# EAGLE library part CY8C26643-24* (library cypress_micro)
The CY8C25xxx/26xxx family of Programmable System-on-Chip (PSoC) microcontrollers offers a fast core, Flash program memory and SRAM data memory with configurable analog and digital peripheral blocks in a range of convinient pinouts and memory size on one single chip.
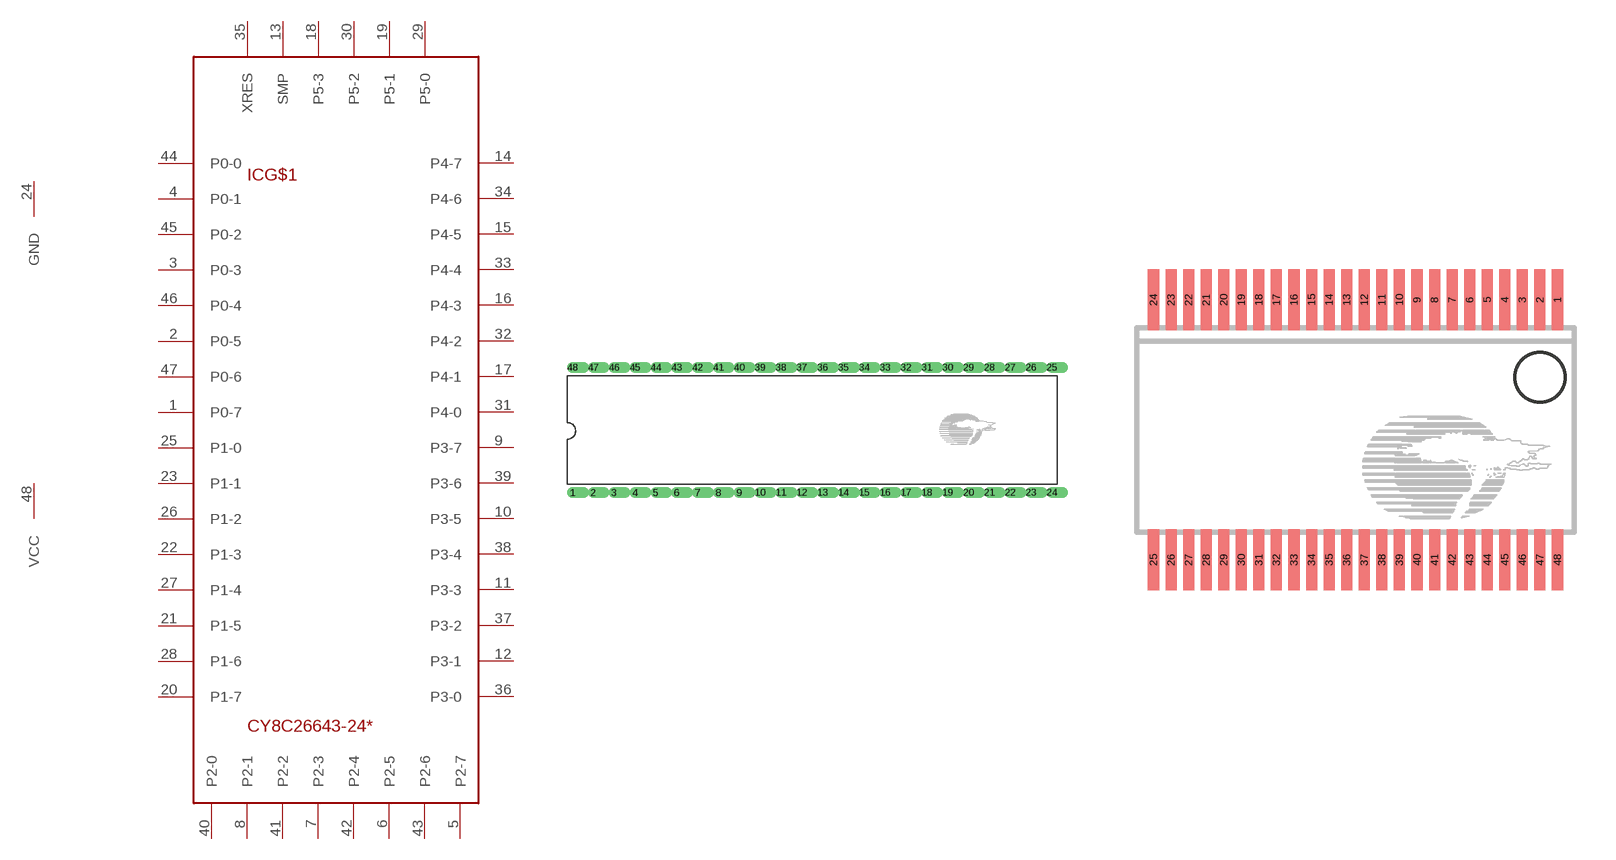
[diagram p2: symbol with the pads of PDIP48; footprints PDIP48, SSOP48]

Designator prefix IC; gates G$1=CY8C26663 G$2=GND G$3=VCC

## CY8C26643-24PI  [PDIP48]
1  G$1:P0-7
2  G$1:P0-5
3  G$1:P0-3
4  G$1:P0-1
5  G$1:P2-7
6  G$1:P2-5
7  G$1:P2-3
8  G$1:P2-1
9  G$1:P3-7
10  G$1:P3-5
11  G$1:P3-3
12  G$1:P3-1
13  G$1:SMP  out
14  G$1:P4-7
15  G$1:P4-5
16  G$1:P4-3
17  G$1:P4-1
18  G$1:P5-3
19  G$1:P5-1
20  G$1:P1-7
21  G$1:P1-5
22  G$1:P1-3
23  G$1:P1-1
24  G$2:GND  pwr
25  G$1:P1-0
26  G$1:P1-2
27  G$1:P1-4
28  G$1:P1-6
29  G$1:P5-0
30  G$1:P5-2
31  G$1:P4-0
32  G$1:P4-2
33  G$1:P4-4
34  G$1:P4-6
35  G$1:XRES  in
36  G$1:P3-0
37  G$1:P3-2
38  G$1:P3-4
39  G$1:P3-6
40  G$1:P2-0
41  G$1:P2-2
42  G$1:P2-4
43  G$1:P2-6
44  G$1:P0-0
45  G$1:P0-2
46  G$1:P0-4
47  G$1:P0-6
48  G$3:VCC  pwr

## CY8C26643-24PVI  [SSOP48]
Pads as for PDIP48

## Footprint PDIP48 (pad centres in mm)
Plastic Dual Inline Package with 48 pins
drill 0.813 offset: 1 -29.21,-7.62; 2 -26.67,-7.62; 3 -24.13,-7.62; 4 -21.59,-7.62; 5 -19.05,-7.62; 6 -16.51,-7.62; 7 -13.97,-7.62; 8 -11.43,-7.62; 9 -8.89,-7.62; 10 -6.35,-7.62; 11 -3.81,-7.62; 12 -1.27,-7.62; 13 1.27,-7.62; 14 3.81,-7.62; 15 6.35,-7.62; 16 8.89,-7.62; 17 11.43,-7.62; 18 13.97,-7.62; 19 16.51,-7.62; 20 19.05,-7.62; 21 21.59,-7.62; 22 24.13,-7.62; 23 26.67,-7.62; 24 29.21,-7.62; 25 29.21,7.62; 26 26.67,7.62; 27 24.13,7.62; 28 21.59,7.62; 29 19.05,7.62; 30 16.51,7.62; 31 13.97,7.62; 32 11.43,7.62; 33 8.89,7.62; 34 6.35,7.62; 35 3.81,7.62; 36 1.27,7.62; 37 -1.27,7.62; 38 -3.81,7.62; 39 -6.35,7.62; 40 -8.89,7.62; 41 -11.43,7.62; 42 -13.97,7.62; 43 -16.51,7.62; 44 -19.05,7.62; 45 -21.59,7.62; 46 -24.13,7.62; 47 -26.67,7.62; 48 -29.21,7.62

## Footprint SSOP48 (pad centres in mm)
Shrunk Small Outline Package with 48 pins
smd 0.4 x 2.2: 1 6.859,4.573; 2 6.223,4.573; 3 5.588,4.573; 4 4.954,4.573; 5 4.319,4.573; 6 3.683,4.573; 7 3.049,4.573; 8 2.413,4.573; 9 1.778,4.573; 10 1.143,4.573; 11 0.508,4.573; 12 -0.127,4.573; 13 -0.762,4.573; 14 -1.397,4.573; 15 -2.033,4.573; 16 -2.667,4.573; 17 -3.303,4.573; 18 -3.938,4.573; 19 -4.572,4.573; 20 -5.207,4.573; 21 -5.843,4.573; 22 -6.478,4.573; 23 -7.112,4.573; 24 -7.747,4.573; 25 -7.747,-4.827; 26 -7.112,-4.827; 27 -6.478,-4.827; 28 -5.843,-4.827; 29 -5.207,-4.827; 30 -4.572,-4.827; 31 -3.938,-4.827; 32 -3.303,-4.827; 33 -2.667,-4.827; 34 -2.033,-4.827; 35 -1.397,-4.827; 36 -0.762,-4.827; 37 -0.127,-4.827; 38 0.508,-4.827; 39 1.143,-4.827; 40 1.778,-4.827; 41 2.413,-4.827; 42 3.049,-4.827; 43 3.683,-4.827; 44 4.319,-4.827; 45 4.954,-4.827; 46 5.588,-4.827; 47 6.223,-4.827; 48 6.859,-4.827